# Altium integrated library 593D476X9025E2TE3.IntLib: 1 symbol
Pins are listed as number, name and electrical type; pins without a type are passive.

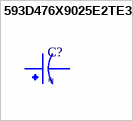
[diagram p0: symbol 593D476X9025E2TE3]

## 593D476X9025E2TE3
designator C?
MF: {'manufacturer': u'Vishay Sprague'}; MP: 593D476X9025E2TE3; Package: None; Price: None; Value: *; Availability: Unavailable
footprint CAPMP7343X430N
pins: 1, 2